# Altium schematic symbol library Burkhardt_Lib.SchLib: 87 symbols
Pins are listed as number, name and electrical type; pins without a type are passive.

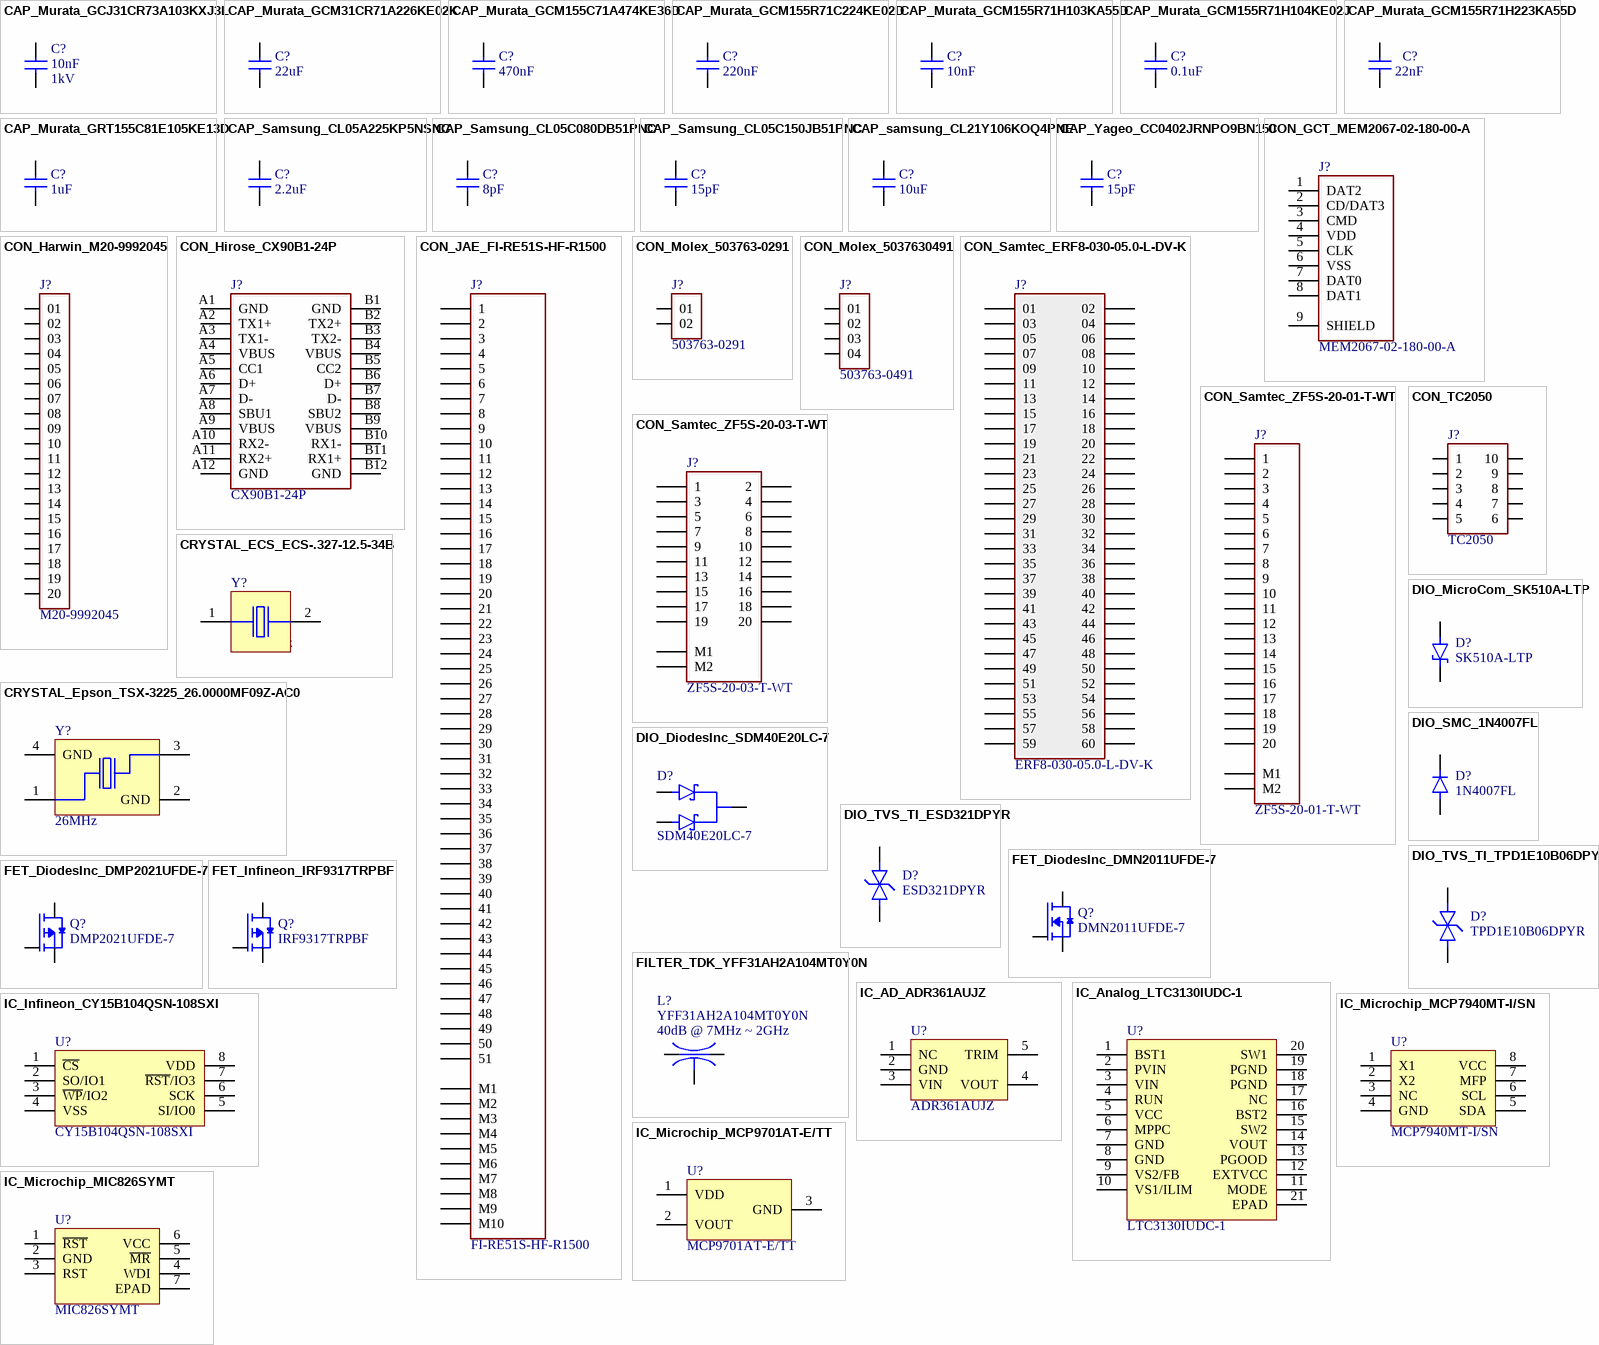
[diagram p0: symbols CAP_Murata_GCJ31CR73A103KXJ3L to IC_Microchip_MIC826SYMT]

## CAP_Murata_GCJ31CR73A103KXJ3L
designator C?, comment value 10nF  Voltage: 1kV  (hidden comment: GCJ31CR73A103KXJ3L)
10000 pF ±10% 1000V (1kV) Ceramic Capacitor X7R 1206 (3216 Metric); Supplier 1: Mouser; Supplier Part Number 1: 81-GCJ31CR73A103KX3L
footprint C_1206 (Capacitor 1206)
pins: 1, 2

## CAP_Murata_GCM31CR71A226KE02K
designator C?, comment value 22uF  (hidden comment: GCM31CR71A226KE02K)
22 µF ±10% 10V Ceramic Capacitor X7R 1206 (3216 Metric); Supplier 1: Digi-Key; Supplier Part Number 1: 490-GCM31CR71A226KE02KCT-ND; Voltage: 10V
footprint C_1206 (Capacitor 1206)
pins: 1, 2

## CAP_Murata_GCM155C71A474KE36D
designator C?, comment value 470nF  (hidden comment: GCM155C71A474KE36D)
0.47 µF ±10% 10V Ceramic Capacitor X7S 0402 (1005 Metric); Voltage: 10V; Supplier 1: Digi-Key; Supplier Part Number 1: 490-14427-1-ND
footprint C_0402 (Capacitor 0402)
pins: 1, 2

## CAP_Murata_GCM155R71C224KE02D
designator C?, comment value 220nF  (hidden comment: GCM155R71C224KE02D)
0.22 µF ±10% 16V Ceramic Capacitor X7R 0402 (1005 Metric); Supplier 1: Digi-Key; Voltage: 16V; Supplier Part Number 1: 490-10671-1-ND
footprint C_0402 (Capacitor 0402)
pins: 1, 2

## CAP_Murata_GCM155R71H103KA55D
designator C?, comment value 10nF  (hidden comment: GCM155R71H103KA55D)
10nF ±10% 50V Ceramic Capacitor X7R 0402 (1005 Metric); Voltage: 50V; Supplier 1: Digi-Key; Supplier Part Number 1: 490-4762-1-ND
footprint C_0402 (Capacitor 0402)
pins: 1, 2

## CAP_Murata_GCM155R71H104KE02J
designator C?, comment value 0.1uF  (hidden comment: GCM155R71H104KE02J)
0.1 µF ±10% 50V Ceramic Capacitor X7R 0402 (1005 Metric); Voltage: 50V; Supplier 1: Digi-Key; Supplier Part Number 1: 490-14514-1-ND
footprint C_0402 (Capacitor 0402)
pins: 1, 2

## CAP_Murata_GCM155R71H223KA55D
designator C?, comment value 22nF  (hidden comment: GCM155R71H223KA55D)
0.022 µF ±10% 50V Ceramic Capacitor X7R 0402 (1005 Metric); Voltage: 50V; Supplier 1: Mouser; Supplier Part Number 1: 81-GCM155R71H223KA5D
footprint C_0402 (Capacitor 0402)
pins: 1, 2

## CAP_Murata_GRT155C81E105KE13D
designator C?, comment value 1uF  (hidden comment: GRT155C81E105KE13D)
1 µF ±10% 25V Ceramic Capacitor X6S 0402 (1005 Metric); Voltage: 25V; Supplier 1: Digi-Key; Supplier Part Number 1: 490-18215-1-ND
footprint C_0402 (Capacitor 0402)
pins: 1, 2

## CAP_Samsung_CL05A225KP5NSNC
designator C?, comment value 2.2uF  (hidden comment: CL05A225KP5NSNC)
2.2 µF ±10% 10V Ceramic Capacitor X5R 0402 (1005 Metric); Supplier 1: Digi-Key; Supplier Part Number 1: 1276-1108-1-ND; Voltage: 10V
footprint C_0402 (Capacitor 0402)
pins: 1, 2

## CAP_Samsung_CL05C080DB51PNC
designator C?, comment value 8pF  (hidden comment: CL05C080DB51PNC)
8 pF ±0.5pF 50V Ceramic Capacitor C0G, NP0 0402 (1005 Metric); Voltage: 50V; Supplier 1: Digi-Key; Supplier Part Number 1: 1276-CL05C080DB51PNCCT-ND
footprint C_0402 (Capacitor 0402)
pins: 1, 2

## CAP_Samsung_CL05C150JB51PNC
designator C?, comment value 15pF  (hidden comment: CL05C150JB51PNC)
15 pF ±5% 50V Ceramic Capacitor C0G, NP0 0402 (1005 Metric); Voltage: 50V; Supplier 1: Digi-Key; Supplier Part Number 1: 1276-6611-1-ND
footprint C_0402 (Capacitor 0402)
pins: 1, 2

## CAP_samsung_CL21Y106KOQ4PNE
designator C?, comment value 10uF  (hidden comment: CL21Y106KOQ4PNE)
10 µF ±10% 16V Ceramic Capacitor X7S 0805 (2012 Metric); Voltage: 16V; Supplier 1: Digi-Key; Supplier Part Number 1: 1276-CL21Y106KOQ4PNECT-ND
footprint C_0805 (Capacitor 0805)
pins: 1, 2

## CAP_Yageo_CC0402JRNPO9BN150
designator C?, comment value 15pF  (hidden comment: CC0402JRNPO9BN150)
15 pF ±5% 50V Ceramic Capacitor C0G, NP0 0402 (1005 Metric); Supplier 1: Digi-Key; Supplier Part Number 1: 311-1017-1-ND; Voltage: 50V
footprint C_0402 (Capacitor 0402)
pins: 1, 2

## CON_GCT_MEM2067-02-180-00-A
designator J?, comment MEM2067-02-180-00-A
8 Position Card Connector Secure Digital - microSD™ Surface Mount, Right Angle Gold
pins: 1 DAT2, 2 CD/DAT3, 3 CMD, 4 VDD, 5 CLK, 6 VSS, 7 DAT0, 8 DAT1, 9 SHIELD

## CON_Harwin_M20-9992045
designator J?, comment M20-9992045
Connector Header Through Hole 20 position 0.100" (2.54mm); Supplier 1: Digikey; Supplier Part Number 1: 952-3306-ND
footprint CON_HARWIN_M20-9992045 (10.04mm, 10.64mm, 11.04mm, 16.54mm)
pins: 1 01, 2 02, 3 03, 4 04, 5 05, 6 06, 7 07, 8 08, 9 09, 10, 11, 12, 13, 14, 15, 16, 17, 18, 19, 20

## CON_Hirose_CX90B1-24P
designator J?, comment CX90B1-24P
USB-C (USB TYPE-C) USB 3.2 Gen 2 (USB 3.1 Gen 2, Superspeed + (USB 3.1)) Receptacle Connector 24 Position Surface Mount, Right Angle; Through Hole; Supplier 1: Digi-Key; Supplier Part Number 1: H125778CT-ND
footprint CON_Hirose_CX90B1-24P (USB-C)
pins: A1 GND, A2 TX1+, A3 TX1-, A4 VBUS, A5 CC1, A6 D+, A7 D-, A8 SBU1, A9 VBUS, A10 RX2-, A11 RX2+, A12 GND, B1 GND, B2 TX2+, B3 TX2-, B4 VBUS, B5 CC2, B6 D+, B7 D-, B8 SBU2, B9 VBUS, B10 RX1-, B11 RX1+, B12 GND

## CON_JAE_FI-RE51S-HF-R1500
designator J?, comment FI-RE51S-HF-R1500
51 Position Receptacle Connector 0.020" (0.50mm) Surface Mount, Right Angle Gold; Supplier 1: Mouser; Supplier Part Number 1: 656-FIRE51SHFR1500
footprint CON_JAE_FI-RE51S-HF-R1500
pins: 1, 2, 3, 4, 5, 6, 7, 8, 9, 10, 11, 12, 13, 14, 15, 16, 17, 18, 19, 20, 21, 22, 23, 24, 25, 26, 27, 28, 29, 30, 31, 32, 33, 34, 35, 36, 37, 38, 39, 40, 41, 42, 43, 44, 45, 46, 47, 48, 49, 50, 51, M1, M2, M3, M4, M5, M6, M7, M8, M9, M10

## CON_Molex_503763-0291
designator J?, comment 503763-0291
Connector Header Surface Mount, Right Angle 2 position 0.039" (1.00mm); Supplier 1: Mouser; Supplier Part Number 1: 538-503763-0291
footprint CON_Molex_503763-0291 (Right Angle 2 position 0.039" (1.00mm))
pins: 1 01, 2 02

## CON_Molex_5037630491
designator J?, comment 503763-0491
Connector Header Surface Mount, Right Angle 4 position 0.039" (1.00mm); Supplier 1: Mouser; Supplier Part Number 1: 538-503763-0491
footprint CON_Molex_5037630491
pins: 1 01, 2 02, 3 03, 4 04

## CON_Samtec_ERF8-030-05.0-L-DV-K
designator J?, comment ERF8-030-05.0-L-DV-K
The ERF8 is a board-mounted socket designed for use in high-speed systems. The ERF8 uses the Edge Rate contact system which is designed for applications requiring high-mating cycles and 56Gbps PAM4 performance. The ERF8 mates with ERM8 board-mounted headers.; Supplier 1: Arrow Electronics; Supplier Part Number 1: ERF8-030-05.0-L-DV-K-TR
footprint CON_Samtec_ERF8-030-05.0-L-DV-K
pins: 01, 02, 03, 04, 05, 06, 07, 08, 09, 10, 11, 12, 13, 14, 15, 16, 17, 18, 19, 20, 21, 22, 23, 24, 25, 26, 27, 28, 29, 30, 31, 32, 33, 34, 35, 36, 37, 38, 39, 40, 41, 42, 43, 44, 45, 46, 47, 48, 49, 50, 51, 52, 53, 54, 55, 56, 57, 58, 59, 60

## CON_Samtec_ZF5S-20-01-T-WT
designator J?, comment ZF5S-20-01-T-WT
Zero Insertion Force Connector for FFC, 0.50 mm (.0197") Pitch; Supplier 1: Newark; Supplier Part Number 1: 49AJ4181
footprint CON_Samtec_ZF5S-20-01-T-WT
pins: 1, 2, 3, 4, 5, 6, 7, 8, 9, 10, 11, 12, 13, 14, 15, 16, 17, 18, 19, 20, M1, M2

## CON_Samtec_ZF5S-20-03-T-WT
designator J?, comment ZF5S-20-03-T-WT
Zero Insertion Force Connector for FFC, 0.50 mm (.0197") Pitch, vertical; Supplier 1: Arrow Electronics; Supplier Part Number 1: ZF5S-20-03-T-WT
footprint CON_Samtec_ZF5S-20-03-T-WT
pins: 1, 2, 3, 4, 5, 6, 7, 8, 9, 10, 11, 12, 13, 14, 15, 16, 17, 18, 19, 20, M1, M2

## CON_TC2050
designator J?, comment TC2050
Tag Connector 2050; Supplier 1: Digikey; Supplier Part Number 1: TC2050-IDC-NL-ND
footprint CON_TC2050 (Tag Connect 2050)
pins: 1, 2, 3, 4, 5, 6, 7, 8, 9, 10

## CRYSTAL_ECS_ECS-.327-12.5-34B
designator Y?, comment value 32.768kHz  (hidden comment: ECS-.327-12.5-34B)
32.768 kHz ±20ppm Crystal 12.5pF 70 kOhms 2-SMD, No Lead; Supplier 1: Digi-Key; Supplier Part Number 1: XC1617CT-ND
footprint ECX-31B
pins: 1, 2

## CRYSTAL_Epson_TSX-3225_26.0000MF09Z-AC0
designator Y?, comment value 26MHz  (hidden comment: TSX-3225 26.0000MF09Z-AC0)
26 MHz ±10ppm Crystal 9pF 40 Ohms 4-SMD, No Lead; Supplier 1: Mouser; Supplier Part Number 1: 732-322526F09ZAC0
footprint TSX-3225 (4 lead crystal package)
pins: 1, 2 GND, 3, 4 GND

## DIO_DiodesInc_SDM40E20LC-7
designator D?, comment SDM40E20LC-7
Diode Array 1 Pair Common Cathode 20 V 400mA (DC) Surface Mount TO-236-3, SC-59, SOT-23-3; Supplier 1: Future Electronics; Supplier Part Number 1: 3338282
footprint DIO_SDM40E20LC-7 (TO-236-3, SC-59, SOT-23-3)
pins: 1 A1, 2 A2, 3 K

## DIO_MicroCom_SK510A-LTP
designator D?, comment SK510A-LTP
Diode 100 V 5A Surface Mount DO-214AC (SMA); Supplier 1: Arrow Electronics; Supplier Part Number 1: SK510A-LTP
footprint DIO_DO-214AC
pins: A, C K

## DIO_SMC_1N4007FL
designator D?, comment 1N4007FL
Diode 1000 V 1A Surface Mount SOD-123FL; Supplier 1: Digikey; Supplier Part Number 1: 1655-1N4007FLCT-ND
footprint DIO_1N4007FL (SOD-123F)
pins: A, C K

## DIO_TVS_TI_ESD321DPYR
designator D?, comment ESD321DPYR
6.8V (Typ) Clamp 6A (8/20µs) Ipp Tvs Diode Surface Mount 2-X1SON (1x.60); Supplier 1: Digikey; Supplier Part Number 1: 296-51108-1-ND
footprint DIO_TVS_TI_TPD1E10B06DPYR (X1SON-2)
pins: 1, 2

## DIO_TVS_TI_TPD1E10B06DPYR
designator D?, comment TPD1E10B06DPYR
14V Clamp 5A (8/20µs) Ipp Tvs Diode Surface Mount 2-X1SON (1x.60); Supplier 1: Digikey; Supplier Part Number 1: 296-30406-1-ND
footprint DIO_TVS_TI_TPD1E10B06DPYR (X1SON-2)
pins: 1, 2

## FET_DiodesInc_DMN2011UFDE-7
designator Q?, comment DMN2011UFDE-7
N-Channel 20 V 11.7A (Ta) 610mW (Ta) Surface Mount U-DFN2020-6 (Type E); Supplier 1: Newark; Supplier Part Number 1: 36AJ3577
footprint U-DFN2020-6 (U-DFN2020-6 Type E diode)
pins: D, G, S

## FET_DiodesInc_DMP2021UFDE-7
designator Q?, comment DMP2021UFDE-7
P-Channel 20 V 11.1A (Ta) 1.9W (Ta) Surface Mount U-DFN2020-6 (Type E); Supplier 1: Arrow Electronics; Supplier Part Number 1: DMP2021UFDE-7
footprint U-DFN2020-6 (U-DFN2020-6 Type E diode)
pins: D, G, S

## FET_Infineon_IRF9317TRPBF
designator Q?, comment IRF9317TRPBF
P-Channel 30 V 16A (Ta) 2.5W (Ta) Surface Mount 8-SO; Supplier 1: Digikey; Supplier Part Number 1: IRF9317TRPBFCT-ND
footprint IC_Infineon_IRF9317TRPBF (8-SOIC (0.154", 3.90mm Width))
pins: D, G, S

## FILTER_TDK_YFF31AH2A104MT0Y0N
designator L?, comment YFF31AH2A104MT0Y0N  value 40dB @ 7MHz ~ 2GHz
Supplier 1: Avnet; Supplier Part Number 1: 71AH6873
footprint FILTER_TDK_YFF31AH2A104MT0Y0N
pins: 1, 2, 3

## IC_AD_ADR361AUJZ
designator U?, comment ADR361AUJZ
Series Voltage Reference IC Fixed 2.5V V ±0.24% 5 mA TSOT-23-5; Supplier 1: Mouser; Supplier Part Number 1: 584-ADR361AUJZ-R7
footprint IC_AD_ADR361AUJZ (SOT-23-5 Thin, TSOT-23-5)
pins: 1 NC, 2 GND, 3 VIN, 4 VOUT, 5 TRIM

## IC_Analog_LTC3130IUDC-1
designator U?, comment LTC3130IUDC-1
Buck-Boost Switching Regulator IC Positive Programmable 1.8V, 3.3V, 5V, 12V 1 Output 600mA 20-WFQFN Exposed Pad; Supplier 1: Mouser; Supplier Part Number 1: 584-LTC3130IUDC#PBF
footprint IC_Analog_LTC3130IUDC-1 (20-QFN (3x4))
pins: 1 BST1, 2 PVIN, 3 VIN, 4 RUN, 5 VCC, 6 MPPC, 7 GND, 8 GND, 9 VS2/FB, 10 VS1/ILIM, 11 MODE, 12 EXTVCC, 13 PGOOD, 14 VOUT, 15 SW2, 16 BST2, 17 NC, 18 PGND, 19 PGND, 20 SW1, 21 EPAD

## IC_Infineon_CY15B104QSN-108SXI
designator U?, comment CY15B104QSN-108SXI
FRAM (Ferroelectric RAM) Memory IC 4Mbit SPI - Quad I/O 108 MHz 8-SOIC; Supplier 1: Digi-Key; Supplier Part Number 1: 448-CY15B104QSN-108SXI-ND
footprint IC_Infineon_CY15B104QSN-108SXI (SOIC-8)
pins: 1 ~{CS}, 2 SO/IO1, 3 ~{WP}/IO2, 4 VSS, 5 SI/IO0, 6 SCK, 7 ~{RST}/IO3, 8 VDD

## IC_Microchip_MCP7940MT-I/SN
designator U?, comment MCP7940MT-I/SN
Real Time Clock (RTC) IC Clock/Calendar 64B I2C, 2-Wire Serial 8-SOIC (0.154", 3.90mm Width); Supplier 1: Arrow Electronics; Supplier Part Number 1: MCP7940MT-I/SN
footprint IC_Microchip_MCP7940MT-I/SN (8-SOIC (0.154", 3.90mm Width))
pins: 1 X1, 2 X2, 3 NC, 4 GND, 5 SDA, 6 SCL, 7 MFP, 8 VCC

## IC_Microchip_MCP9701AT-E/TT
designator U?, comment MCP9701AT-E/TT
Temperature Sensor Analog, Local -10°C ~ 125°C 19.5mV/°C SOT-23-3; Supplier 1: Digi-Key; Supplier Part Number 1: MCP9701AT-E/TTCT-ND
footprint IC_Microchip_MCP9701AT-E/TT (SOT23-3)
pins: 1 VDD, 2 VOUT, 3 GND

## IC_Microchip_MIC826SYMT
designator U?, comment MIC826SYMT
Supervisor Push-Pull, Totem Pole 1 Channel 6-TDFN (1.6x1.6); Supplier 1: Arrow Electronics; Supplier Part Number 1: MIC826SYMT-TR
footprint IC_Microchip_MIC826SYMT (6-TDFN (1.6x1.6), 6-UFDFN Exposed Pad)
pins: 1 ~{RST}, 2 GND, 3 RST, 4 WDI, 5 ~{MR}, 6 VCC, 7 EPAD

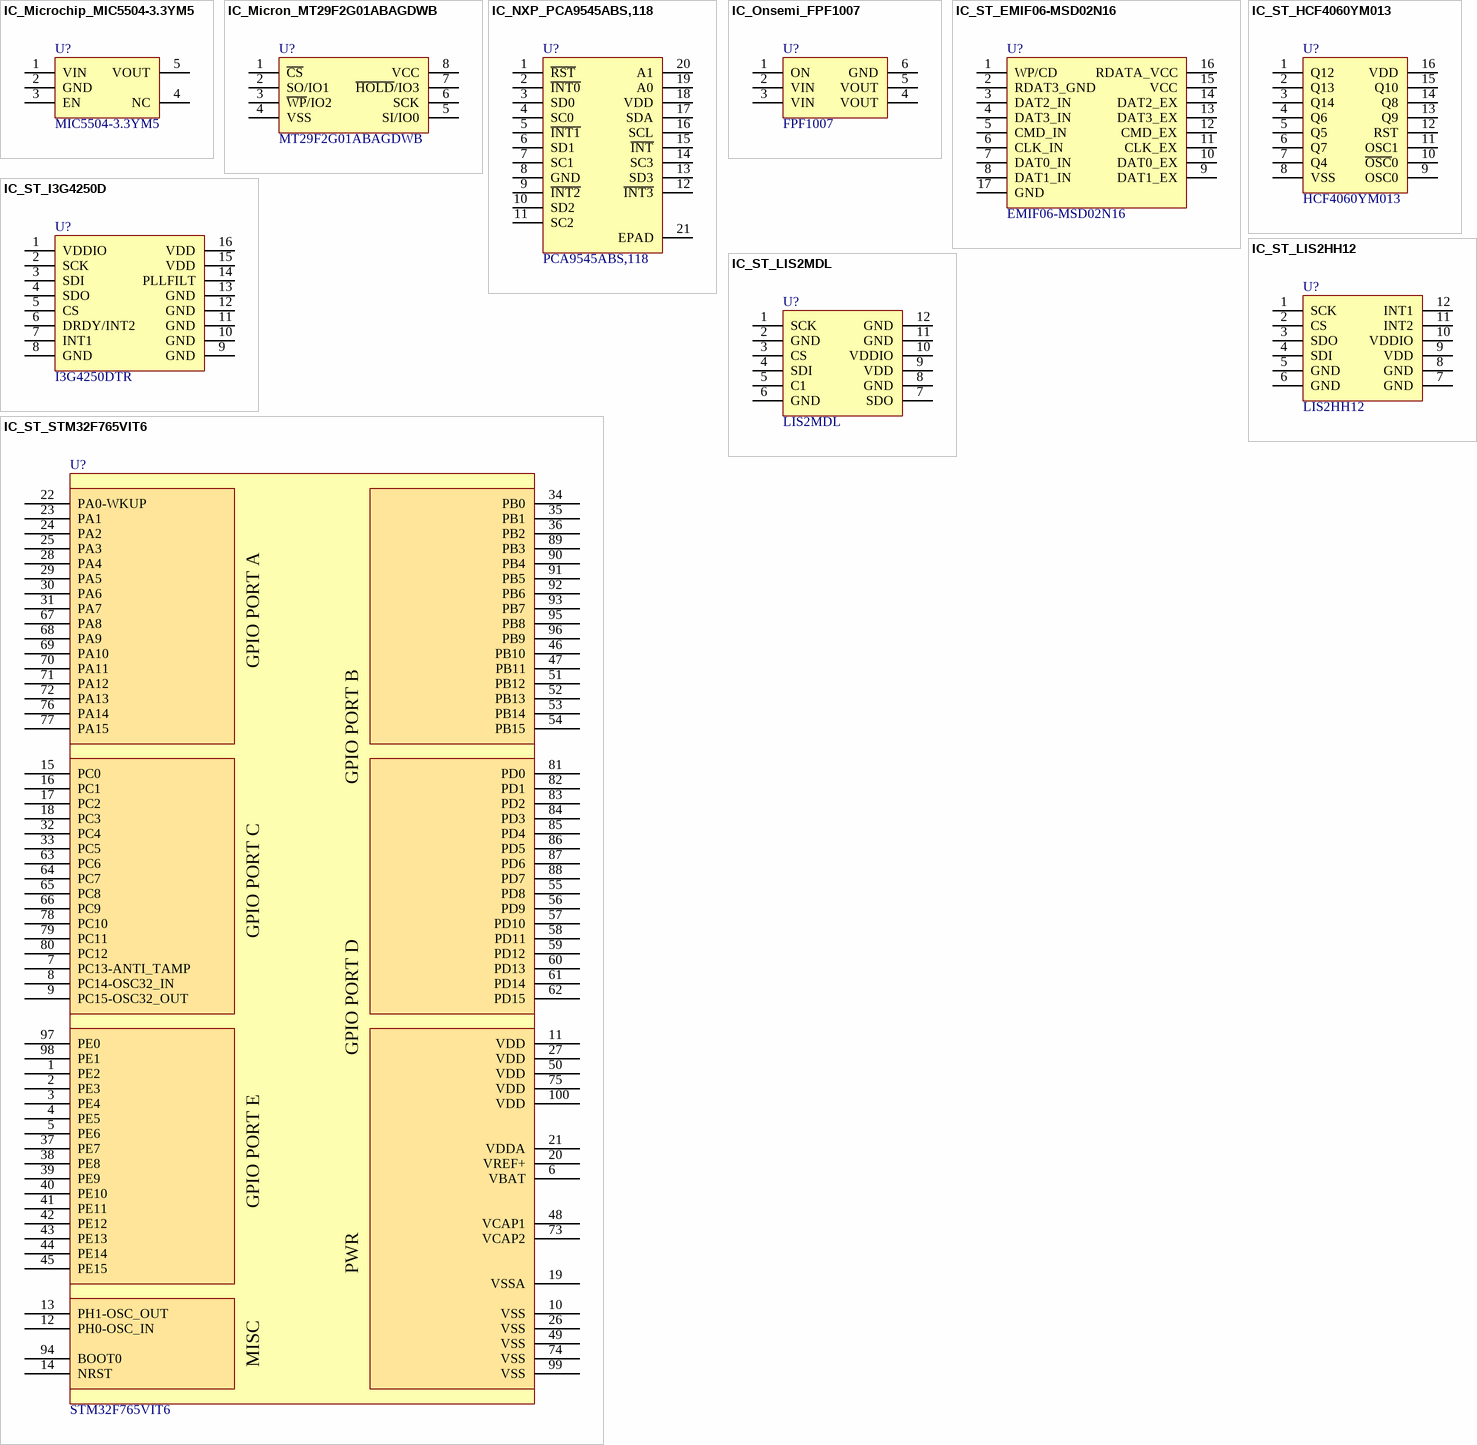
[diagram p1: symbols IC_Microchip_MIC5504-3.3YM5 to IC_ST_STM32F765VIT6]

## IC_Microchip_MIC5504-3.3YM5
designator U?, comment MIC5504-3.3YM5
Linear Voltage Regulator IC Positive Fixed 1 Output 300mA SOT-23-5; Supplier 1: Avnet; Supplier Part Number 1: MIC5504-3.3YM5-TR
footprint IC_Microchip_MIC5504-3.3YM5 (SC-74A, SOT-753, SOT-23-5)
pins: 1 VIN, 2 GND, 3 EN, 4 NC, 5 VOUT

## IC_Micron_MT29F2G01ABAGDWB
designator U?, comment MT29F2G01ABAGDWB
FLASH - NAND Memory IC 2Gbit SPI 8-UPDFN (8x6) (MLP8); Supplier 1: Digi-Key; Supplier Part Number 1: 557-1664-1-ND
footprint IC_Micron_MT29F2G01ABAGDWB (UPDFN-8)
pins: 1 ~{CS}, 2 SO/IO1, 3 ~{WP}/IO2, 4 VSS, 5 SI/IO0, 6 SCK, 7 ~{HOLD}/IO3, 8 VCC

## IC_NXP_PCA9545ABS,118
designator U?, comment PCA9545ABS,118
4-Channel I2C Switcher Interface 20-HVQFN (5x5); Supplier 1: Newark; Supplier Part Number 1: 61AC1260
footprint IC_NXP_PCA9545ABS,118 (HVQFN (5x5))
pins: 1 ~{RST}, 2 ~{INT0}, 3 SD0, 4 SC0, 5 ~{INT1}, 6 SD1, 7 SC1, 8 GND, 9 ~{INT2}, 10 SD2, 11 SC2, 12 ~{INT3}, 13 SD3, 14 SC3, 15 ~{INT}, 16 SCL, 17 SDA, 18 VDD, 19 A0, 20 A1, 21 EPAD

## IC_Onsemi_FPF1007
designator U?, comment FPF1007
Power Switch/Driver 1:1 P-Channel 1.5A 6-MicroFET (2x2); Supplier 1: Avnet; Supplier Part Number 1: FPF1007
pins: 1 ON, 2 VIN, 3 VIN, 4 VOUT, 5 VOUT, 6 GND

## IC_ST_EMIF06-MSD02N16
designator U?, comment EMIF06-MSD02N16
RC (Pi) EMI Filter 2nd Order Low Pass 6 Channel R = 45Ohms, C = 20pF (Total) 16-UFDFN Exposed Pad; Supplier 1: Mouser; Supplier Part Number 1: 511-EMIF06-MSD02N16
footprint IC_UQFN_16L (Exposed Pad micro QFN 16 Pin)
pins: 1 WP/CD, 2 RDAT3_GND, 3 DAT2_IN, 4 DAT3_IN, 5 CMD_IN, 6 CLK_IN, 7 DAT0_IN, 8 DAT1_IN, 9 DAT1_EX, 10 DAT0_EX, 11 CLK_EX, 12 CMD_EX, 13 DAT3_EX, 14 DAT2_EX, 15 VCC, 16 RDATA_VCC, 17 GND

## IC_ST_HCF4060YM013
designator U?, comment HCF4060YM013
Counter IC Binary Counter 1 Element 14 Bit Negative Edge 16-SO; Supplier 1: Mouser; Supplier Part Number 1: 511-HCF4060YM013TR
footprint IC_ST_HCF4060YM013 (16-SOIC (0.154", 3.90mm Width))
pins: 1 Q12, 2 Q13, 3 Q14, 4 Q6, 5 Q5, 6 Q7, 7 Q4, 8 VSS, 9 OSC0, 10 ~{OSC}0, 11 OSC1, 12 RST, 13 Q9, 14 Q8, 15 Q10, 16 VDD

## IC_ST_I3G4250D
designator U?, comment I3G4250DTR
Gyroscope X (Pitch), Y (Roll), Z (Yaw) ±245, 500, 2000 I2C, SPI 16-LGA (4x4); Supplier 1: Digi-Key; Supplier Part Number 1: 497-15699-1-ND
footprint IC_ST_I3G4250D (TFLGA-16)
pins: 1 VDDIO, 2 SCK, 3 SDI, 4 SDO, 5 CS, 6 DRDY/INT2, 7 INT1, 8 GND, 9 GND, 10 GND, 11 GND, 12 GND, 13 GND, 14 PLLFILT, 15 VDD, 16 VDD

## IC_ST_LIS2HH12
designator U?, comment LIS2HH12
Accelerometer X, Y, Z Axis ±2g, 4g, 8g 5Hz ~ 400Hz 12-LGA (2x2); Supplier 1: Digi-Key; Supplier Part Number 1: 497-15069-1-ND
footprint IC_ST_LIS2HH12 (LGA-12)
pins: 1 SCK, 2 CS, 3 SDO, 4 SDI, 5 GND, 6 GND, 7 GND, 8 GND, 9 VDD, 10 VDDIO, 11 INT2, 12 INT1

## IC_ST_LIS2MDL
designator U?, comment LIS2MDL
Magnetoresistive Sensor X, Y, Z Axis 12-LGA (2x2); Supplier 1: Digi-Key; Supplier Part Number 1: 497-17588-1-ND
footprint IC_ST_LIS2MDL (WFLGA-12)
pins: 1 SCK, 2 GND, 3 CS, 4 SDI, 5 C1, 6 GND, 7 SDO, 8 GND, 9 VDD, 10 VDDIO, 11 GND, 12 GND

## IC_ST_STM32F765VIT6
designator U?, comment STM32F765VIT6
IC MCU 32BIT 2MB FLASH 100LQFP; Supplier 1: Digi-Key
footprint IC_LQFP-100
pins: 1 PE2, 2 PE3, 3 PE4, 4 PE5, 5 PE6, 6 VBAT, 7 PC13-ANTI_TAMP, 8 PC14-OSC32_IN, 9 PC15-OSC32_OUT, 10 VSS, 11 VDD, 12 PH0-OSC_IN, 13 PH1-OSC_OUT, 14 NRST, 15 PC0, 16 PC1, 17 PC2, 18 PC3, 19 VSSA, 20 VREF+, 21 VDDA, 22 PA0-WKUP, 23 PA1, 24 PA2, 25 PA3, 26 VSS, 27 VDD, 28 PA4, 29 PA5, 30 PA6, 31 PA7, 32 PC4, 33 PC5, 34 PB0, 35 PB1, 36 PB2, 37 PE7, 38 PE8, 39 PE9, 40 PE10, 41 PE11, 42 PE12, 43 PE13, 44 PE14, 45 PE15, 46 PB10, 47 PB11, 48 VCAP1, 49 VSS, 50 VDD, 51 PB12, 52 PB13, 53 PB14, 54 PB15, 55 PD8, 56 PD9, 57 PD10, 58 PD11, 59 PD12, 60 PD13, 61 PD14, 62 PD15, 63 PC6, 64 PC7, 65 PC8, 66 PC9, 67 PA8, 68 PA9, 69 PA10, 70 PA11, 71 PA12, 72 PA13, 73 VCAP2, 74 VSS, 75 VDD, 76 PA14, 77 PA15, 78 PC10, 79 PC11, 80 PC12, 81 PD0, 82 PD1, 83 PD2, 84 PD3, 85 PD4, 86 PD5, 87 PD6, 88 PD7, 89 PB3, 90 PB4, 91 PB5, 92 PB6, 93 PB7, 94 BOOT0, 95 PB8, 96 PB9, 97 PE0, 98 PE1, 99 VSS, 100 VDD
text: GPIO PORT A; GPIO PORT B; GPIO PORT C; GPIO PORT D; GPIO PORT E; PWR; MISC

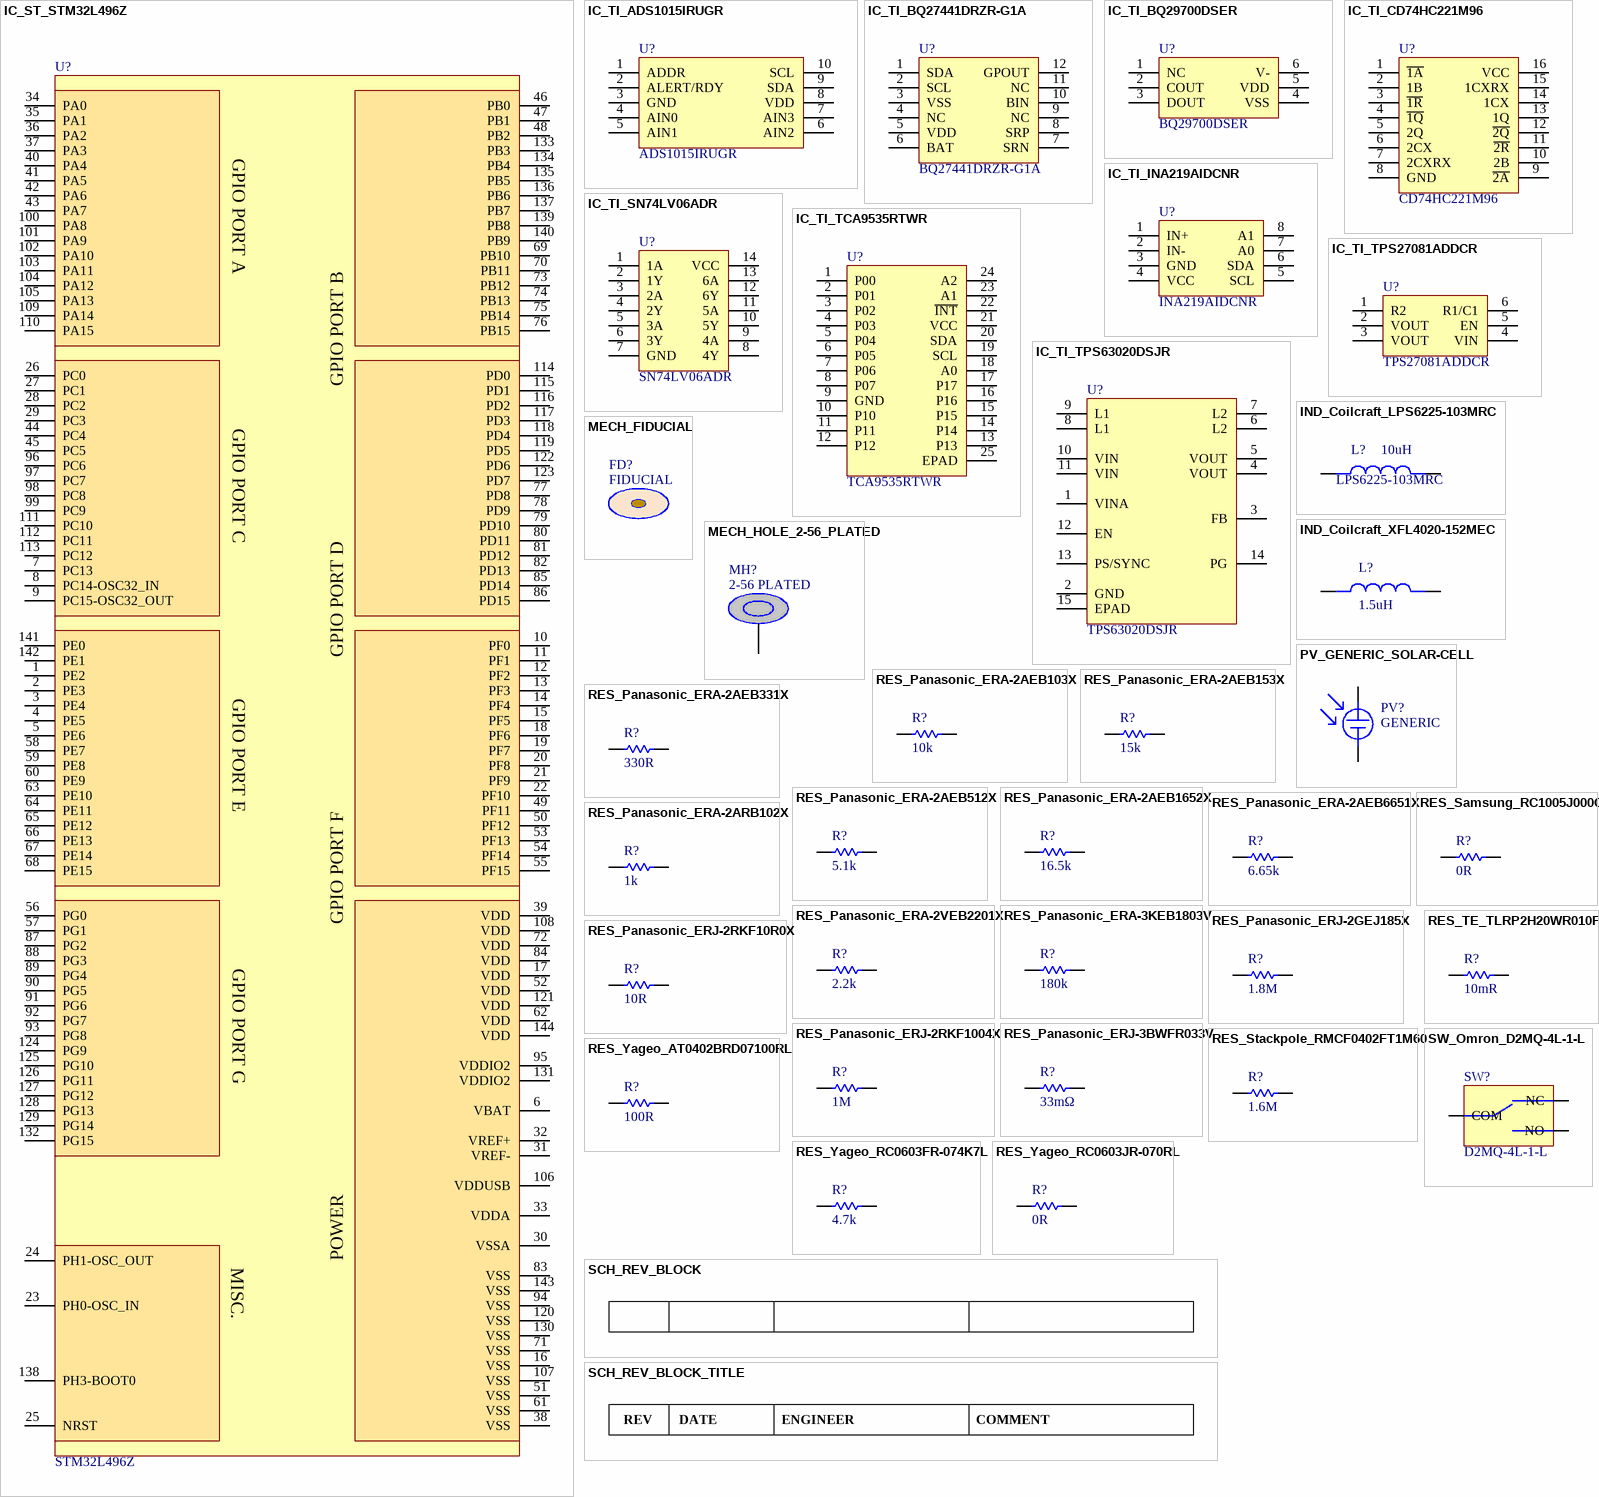
[diagram p2: symbols IC_ST_STM32L496Z to SW_Omron_D2MQ-4L-1-L]

## IC_ST_STM32L496Z
designator U?, comment STM32L496Z
ARM® Cortex®-M4 STM32L4 Microcontroller IC 32-Bit Single-Core 80MHz 1MB (1M x 8) FLASH 144-LQFP (20x20); Supplier 1: Digi-Key; Supplier Part Number 1: 497-17178-ND
footprint IC_LQFP-144_20x20 (144-LQFP (20x20))
pins: 1 PE2, 2 PE3, 3 PE4, 4 PE5, 5 PE6, 6 VBAT, 7 PC13, 8 PC14-OSC32_IN, 9 PC15-OSC32_OUT, 10 PF0, 11 PF1, 12 PF2, 13 PF3, 14 PF4, 15 PF5, 16 VSS, 17 VDD, 18 PF6, 19 PF7, 20 PF8, 21 PF9, 22 PF10, 23 PH0-OSC_IN, 24 PH1-OSC_OUT, 25 NRST, 26 PC0, 27 PC1, 28 PC2, 29 PC3, 30 VSSA, 31 VREF-, 32 VREF+, 33 VDDA, 34 PA0, 35 PA1, 36 PA2, 37 PA3, 38 VSS, 39 VDD, 40 PA4, 41 PA5, 42 PA6, 43 PA7, 44 PC4, 45 PC5, 46 PB0, 47 PB1, 48 PB2, 49 PF11, 50 PF12, 51 VSS, 52 VDD, 53 PF13, 54 PF14, 55 PF15, 56 PG0, 57 PG1, 58 PE7, 59 PE8, 60 PE9, 61 VSS, 62 VDD, 63 PE10, 64 PE11, 65 PE12, 66 PE13, 67 PE14, 68 PE15, 69 PB10, 70 PB11, 71 VSS, 72 VDD, 73 PB12, 74 PB13, 75 PB14, 76 PB15, 77 PD8, 78 PD9, 79 PD10, 80 PD11, 81 PD12, 82 PD13, 83 VSS, 84 VDD, 85 PD14, 86 PD15, 87 PG2, 88 PG3, 89 PG4, 90 PG5, 91 PG6, 92 PG7, 93 PG8, 94 VSS, 95 VDDIO2, 96 PC6, 97 PC7, 98 PC8, 99 PC9, 100 PA8, 101 PA9, 102 PA10, 103 PA11, 104 PA12, 105 PA13, 106 VDDUSB, 107 VSS, 108 VDD, 109 PA14, 110 PA15, 111 PC10, 112 PC11, 113 PC12, 114 PD0, 115 PD1, 116 PD2, 117 PD3, 118 PD4, 119 PD5, 120 VSS, 121 VDD, 122 PD6, 123 PD7, 124 PG9, 125 PG10, 126 PG11, 127 PG12, 128 PG13, 129 PG14, 130 VSS, 131 VDDIO2, 132 PG15, 133 PB3, 134 PB4, 135 PB5, 136 PB6, 137 PB7, 138 PH3-BOOT0, 139 PB8, 140 PB9, 141 PE0, 142 PE1, 143 VSS, 144 VDD
text: GPIO PORT A; GPIO PORT B; GPIO PORT C; GPIO PORT D; GPIO PORT E; GPIO PORT F; GPIO PORT G; POWER; MISC.

## IC_TI_ADS1015IRUGR
designator U?, comment ADS1015IRUGR
12 Bit Analog to Digital Converter 2, 4 Input 1 Sigma-Delta 10-X2QFN (2x1.5); Supplier 1: Mouser; Supplier Part Number 1: 595-ADS1015IRUGR
footprint IC_TI_ADS1015IRUGR (10-X2QFN (2x1.5))
pins: 1 ADDR, 2 ALERT/RDY, 3 GND, 4 AIN0, 5 AIN1, 6 AIN2, 7 AIN3, 8 VDD, 9 SDA, 10 SCL

## IC_TI_BQ27441DRZR-G1A
designator U?, comment BQ27441DRZR-G1A
Battery Battery Monitor IC Lithium Ion 12-SON (2.5x4); Supplier 1: Mouser; Supplier Part Number 1: 595-BQ27441DRZR-G1A
footprint IC_TI_BQ27441DRZR-G1A (12-VFDFN Exposed Pad; 12-VFDFN Exposed Pad)
pins: 1 SDA, 2 SCL, 3 VSS, 4 NC, 5 VDD, 6 BAT, 7 SRN, 8 SRP, 9 NC, 10 BIN, 11 NC, 12 GPOUT

## IC_TI_BQ29700DSER
designator U?, comment BQ29700DSER
Battery Battery Protection IC Lithium Ion/Polymer 6-WSON (1.5x1.5); Supplier 1: Mouser; Supplier Part Number 1: 595-BQ29700DSER
footprint IC_TI_BQ29700DSER (6-WSON (1.5x1.5))
pins: 1 NC, 2 COUT, 3 DOUT, 4 VSS, 5 VDD, 6 V-

## IC_TI_CD74HC221M96
designator U?, comment CD74HC221M96
Monostable Multivibrator 18 ns 16-SOIC; Supplier 1: Mouser; Supplier Part Number 1: 595-CD74HC221M96
footprint IC_TI_CD74HC221M96 (16-SOIC (0.154", 3.90mm Width))
pins: 1 ~{1A}, 2 1B, 3 ~{1R}, 4 ~{1Q}, 5 2Q, 6 2CX, 7 2CXRX, 8 GND, 9 ~{2A}, 10 2B, 11 ~{2R}, 12 ~{2Q}, 13 1Q, 14 1CX, 15 1CXRX, 16 VCC

## IC_TI_INA219AIDCNR
designator U?, comment INA219AIDCNR
Current Monitor Regulator High-Side 10mA SOT-23-8; Supplier 1: Mouser; Supplier Part Number 1: 595-INA219AIDCNR
footprint IC_TI_INA219AIDCNR (SOT-23-8)
pins: 1 IN+, 2 IN-, 3 GND, 4 VCC, 5 SCL, 6 SDA, 7 A0, 8 A1

## IC_TI_SN74LV06ADR
designator U?, comment SN74LV06ADR
Inverter IC 6 Channel Open Drain 14-SOIC; Supplier 1: Mouser; Supplier Part Number 1: 595-SN74LV06ADR
footprint IC_TI_SN74LV06ADR (14-SOIC (0.154", 3.90mm Width))
pins: 1 1A, 2 1Y, 3 2A, 4 2Y, 5 3A, 6 3Y, 7 GND, 8 4Y, 9 4A, 10 5Y, 11 5A, 12 6Y, 13 6A, 14 VCC

## IC_TI_TCA9535RTWR
designator U?, comment TCA9535RTWR
I/O Expander 16 I2C, SMBus 400 kHz 24-WQFN (4x4); Supplier 1: Mouser; Supplier Part Number 1: 595-TCA9535RTWR
footprint IC_TI_TCA9535RTWR (24-WFQFN Exposed Pad)
pins: 1 P00, 2 P01, 3 P02, 4 P03, 5 P04, 6 P05, 7 P06, 8 P07, 9 GND, 10 P10, 11 P11, 12 P12, 13 P13, 14 P14, 15 P15, 16 P16, 17 P17, 18 A0, 19 SCL, 20 SDA, 21 VCC, 22 ~{INT}, 23 A1, 24 A2, 25 EPAD

## IC_TI_TPS27081ADDCR
designator U?, comment TPS27081ADDCR
Power Switch/Driver 1:1 3A SOT-23-THIN; Supplier 1: Mouser; Supplier Part Number 1: 595-TPS27081ADDCR
footprint IC_TI_TPS27081ADDCR (SOT-23-6 Thin, TSOT-23-6)
pins: 1 R2, 2 VOUT, 3 VOUT, 4 VIN, 5 EN, 6 R1/C1

## IC_TI_TPS63020DSJR
designator U?, comment TPS63020DSJR
Buck-Boost Switching Regulator IC Positive Adjustable 1.2V 1 Output 3.5A (Switch) 14-VFDFN Exposed Pad; Supplier 1: Digi-Key; Supplier Part Number 1: 296-36491-1-ND
footprint IC_TI_TPS63020DSJR (VSON-14)
pins: 1 VINA, 2 GND, 3 FB, 4 VOUT, 5 VOUT, 6 L2, 7 L2, 8 L1, 9 L1, 10 VIN, 11 VIN, 12 EN, 13 PS/SYNC, 14 PG, 15 EPAD

## IND_Coilcraft_LPS6225-103MRC
designator L?, comment LPS6225-103MRC  value 10uH
10 µH Shielded Drum Core Inductor 1.3 A 105mOhm Max 2424 (6060 Metric)
footprint IND_Coilcraft_LPS6225-103MRC (0.236" L x 0.236" W (6.00mm x 6.00mm), 2424 (6060 Metric))
pins: 1, 2

## IND_Coilcraft_XFL4020-152MEC
designator L?, comment value 1.5uH  (hidden comment: XFL4020-152MEC)
1.5 µH Shielded Molded Inductor 9.1 A 15.8mOhm Max 1616 (4040 Metric)
footprint IND_1616
pins: 1, 2

## MECH_FIDUCIAL
designator FD?, comment FIDUCIAL  (no BOM)
footprint MECH_FIDUCIAL

## MECH_HOLE_2-56_PLATED
designator MH?, comment 2-56 PLATED  (no BOM)
2-56 plated, free fit
footprint MECH_HOLE_2-56_PLATED (2-56 plated, free fit)
pins: 1

## PV_GENERIC_SOLAR-CELL
designator PV?, comment GENERIC
pins: 1, 2

## RES_Panasonic_ERA-2AEB103X
designator R?, comment value 10k  (hidden comment: ERA-2AEB103X)
10 kOhms ±0.1% 0.063W, 1/16W Chip Resistor 0402 (1005 Metric) Automotive AEC-Q200 Thin Film; Supplier 1: Digi-Key; Supplier Part Number 1: P10KDCCT-ND
footprint C_0402 (Capacitor 0402)
pins: 1, 2

## RES_Panasonic_ERA-2AEB153X
designator R?, comment value 15k  (hidden comment: ERA-2AEB153X)
15 kOhms ±0.1% 0.063W, 1/16W Chip Resistor 0402 (1005 Metric) Automotive AEC-Q200 Thin Film; Supplier 1: Digikey; Supplier Part Number 1: P15KDCCT-ND
footprint R_0402 (Resistor 0402)
pins: 1, 2

## RES_Panasonic_ERA-2AEB331X
designator R?, comment value 330R  (hidden comment: ERA-2AEB331X)
330 Ohms ±0.1% 0.063W, 1/16W Chip Resistor 0402 (1005 Metric) Automotive AEC-Q200 Thin Film; Supplier 1: Mouser; Supplier Part Number 1: 667-ERA-2AEB331X
footprint R_0402 (Resistor 0402)
pins: 1, 2

## RES_Panasonic_ERA-2AEB512X
designator R?, comment value 5.1k  (hidden comment: ERA-2AEB512X)
5.1 kOhms ±0.1% 0.063W, 1/16W Chip Resistor 0402 (1005 Metric) Automotive AEC-Q200 Thin Film; Supplier 1: Digikey; Supplier Part Number 1: P5.1KDCCT-ND
footprint R_0402 (Resistor 0402)
pins: 1, 2

## RES_Panasonic_ERA-2AEB1652X
designator R?, comment value 16.5k  (hidden comment: ERA-2AEB1652X)
16.5 kOhms ±0.1% 0.063W, 1/16W Chip Resistor 0402 (1005 Metric) Automotive AEC-Q200 Thin Film; Supplier 1: Mouser; Supplier Part Number 1: 667-ERA-2AEB1652X
footprint R_0402 (Resistor 0402)
pins: 1, 2

## RES_Panasonic_ERA-2AEB6651X
designator R?, comment value 6.65k  (hidden comment: ERA-2AEB6651X)
6.65 kOhms ±0.1% 0.063W, 1/16W Chip Resistor 0402 (1005 Metric) Automotive AEC-Q200 Thin Film; Supplier 1: Mouser; Supplier Part Number 1: 667-ERA-2AEB6651X
footprint R_0402 (Resistor 0402)
pins: 1, 2

## RES_Panasonic_ERA-2ARB102X
designator R?, comment value 1k  (hidden comment: ERA-2ARB102X)
1 kOhms ±0.1% 0.063W, 1/16W Chip Resistor 0402 (1005 Metric) Automotive AEC-Q200 Thin Film; Supplier 1: Mouser; Supplier Part Number 1: 667-ERA-2ARB102X
footprint R_0402 (Resistor 0402)
pins: 1, 2

## RES_Panasonic_ERA-2VEB2201X
designator R?, comment value 2.2k  (hidden comment: ERA-2VEB2201X)
2.2 kOhms ±0.1% 0.1W, 1/10W Chip Resistor 0402 (1005 Metric) Anti-Sulfur, Automotive AEC-Q200 Thin Film; Supplier 1: Mouser; Supplier Part Number 1: 667-ERA-2VEB2201X
footprint R_0402 (Resistor 0402)
pins: 1, 2

## RES_Panasonic_ERA-3KEB1803V
designator R?, comment value 180k  (hidden comment: ERA-3KEB1803V)
180 kOhms ±0.1% 0.125W, 1/8W Chip Resistor 0603 (1608 Metric) Anti-Sulfur, Automotive AEC-Q200 Thin Film; Supplier 1: Digi-Key; Supplier Part Number 1: 10-ERA-3KEB1803VCT-ND
footprint C_0603 (Capacitor 0603)
pins: 1, 2

## RES_Panasonic_ERJ-2GEJ185X
designator R?, comment value 1.8M  (hidden comment: ERJ-2GEJ185X)
1.8 MOhms ±5% 0.1W, 1/10W Chip Resistor 0402 (1005 Metric) Automotive AEC-Q200 Thick Film; Supplier 1: Mouser; Supplier Part Number 1: 667-ERJ-2GEJ185X
footprint R_0402 (Resistor 0402)
pins: 1, 2

## RES_Panasonic_ERJ-2RKF10R0X
designator R?, comment value 10R  (hidden comment: ERJ-2RKF10R0X)
10 Ohms ±1% 0.1W, 1/10W Chip Resistor 0402 (1005 Metric) Automotive AEC-Q200 Thick Film; Supplier 1: Digi-Key; Supplier Part Number 1: P10.0LCT-ND
footprint R_0402 (Resistor 0402)
pins: 1, 2

## RES_Panasonic_ERJ-2RKF1004X
designator R?, comment value 1M  (hidden comment: ERJ-2RKF1004X)
1 MOhms ±1% 0.1W, 1/10W Chip Resistor 0402 (1005 Metric) Automotive AEC-Q200 Thick Film; Supplier 1: Digi-Key; Supplier Part Number 1: P1.00MLCT-ND
footprint R_0402 (Resistor 0402)
pins: 1, 2

## RES_Panasonic_ERJ-3BWFR033V
designator R?, comment value 33mΩ  (hidden comment: ERJ-3BWFR033V)
33 mOhms ±1% 0.333W, 1/3W Chip Resistor 0603 (1608 Metric) Automotive AEC-Q200, Current Sense Thick Film; Supplier 1: Mouser; Supplier Part Number 1: 667-ERJ-3BWFR033V
footprint R_0603 (Resistor 0603)
pins: 1, 2

## RES_Samsung_RC1005J000CS
designator R?, comment Samsung: 0R  (hidden comment: RC1005J000CS)
0 Ohms Jumper Chip Resistor 0402 (1005 Metric) Moisture Resistant Thick Film; Supplier 1: Digi-Key; Supplier Part Number 1: 1276-3480-1-ND
footprint R_0402 (Resistor 0402)
pins: 1, 2

## RES_Stackpole_RMCF0402FT1M60
designator R?, comment value 1.6M  (hidden comment: RMCF0402FT1M60)
1.6 MOhms ±1% 0.063W, 1/16W Chip Resistor 0402 (1005 Metric) Automotive AEC-Q200 Thick Film; Supplier 1: Digikey; Supplier Part Number 1: RMCF0402FT1M60CT-ND
footprint R_0402 (Resistor 0402)
pins: 1, 2

## RES_TE_TLRP2H20WR010FTE
designator R?, comment value 10mR  (hidden comment: TLRP2H20WR010FTE)
10 mOhms ±1% 2W Chip Resistor 2010 (5025 Metric) Anti-Sulfur, Automotive AEC-Q200, Current Sense Metal Element; Supplier 1: Newark; Supplier Part Number 1: 58AJ3327
footprint R_1210 (Resistor 1210)
pins: 1, 2

## RES_Yageo_AT0402BRD07100RL
designator R?, comment value 100R  (hidden comment: AT0402BRD07100RL)
100 Ohms ±0.1% 0.063W, 1/16W Chip Resistor 0402 (1005 Metric) Anti-Sulfur, Automotive AEC-Q200, Moisture Resistant Thin Film; Supplier 1: Newark; Supplier Part Number 1: 82AH6634
footprint R_0402 (Resistor 0402)
pins: 1, 2

## RES_Yageo_RC0603FR-074K7L
designator R?, comment value 4.7k  (hidden comment: RC0603FR-074K7L)
4.7 kOhms ±1% 0.1W, 1/10W Chip Resistor 0603 (1608 Metric) Moisture Resistant Thick Film; Supplier 1: Future Electronics; Supplier Part Number 1: 5489695
footprint R_0603 (Resistor 0603)
pins: 1, 2

## RES_Yageo_RC0603JR-070RL
designator R?, comment value 0R  (hidden comment: RC0603JR-070RL)
0 Ohms Jumper Chip Resistor 0603 (1608 Metric) Moisture Resistant Thick Film; Supplier 1: Digi-Key; Supplier Part Number 1: 311-0.0GRCT-ND
footprint R_0603 (Resistor 0603)
pins: 1, 2

## SCH_REV_BLOCK
designator *  (value not drawn)  (graphical)

## SCH_REV_BLOCK_TITLE
designator *  (value not drawn)  (graphical)
text: REV; DATE; ENGINEER; COMMENT

## SW_Omron_D2MQ-4L-1-L
designator SW?, comment D2MQ-4L-1-L
Switch SPDT Through Hole, Right Angle; Supplier 1: Newark; Supplier Part Number 1: 74AH4232
footprint SW_Omron_D2MQ-4L-1-L (switch, through hole)
pins: COM, NC, NO